# Altium footprint library DataBase.PcbLib: 28 footprints (part 2 of 2)
Each footprint in its own frame and in the unit in brackets; x right, y up, seen from the top. Pads: shape width x height; smd on the part's side, far side on the other; paste and mask are expansions set on the pad; w line width, h text height; cw(c..) or ccw(c..) is an arc to the next point about the centre after c.
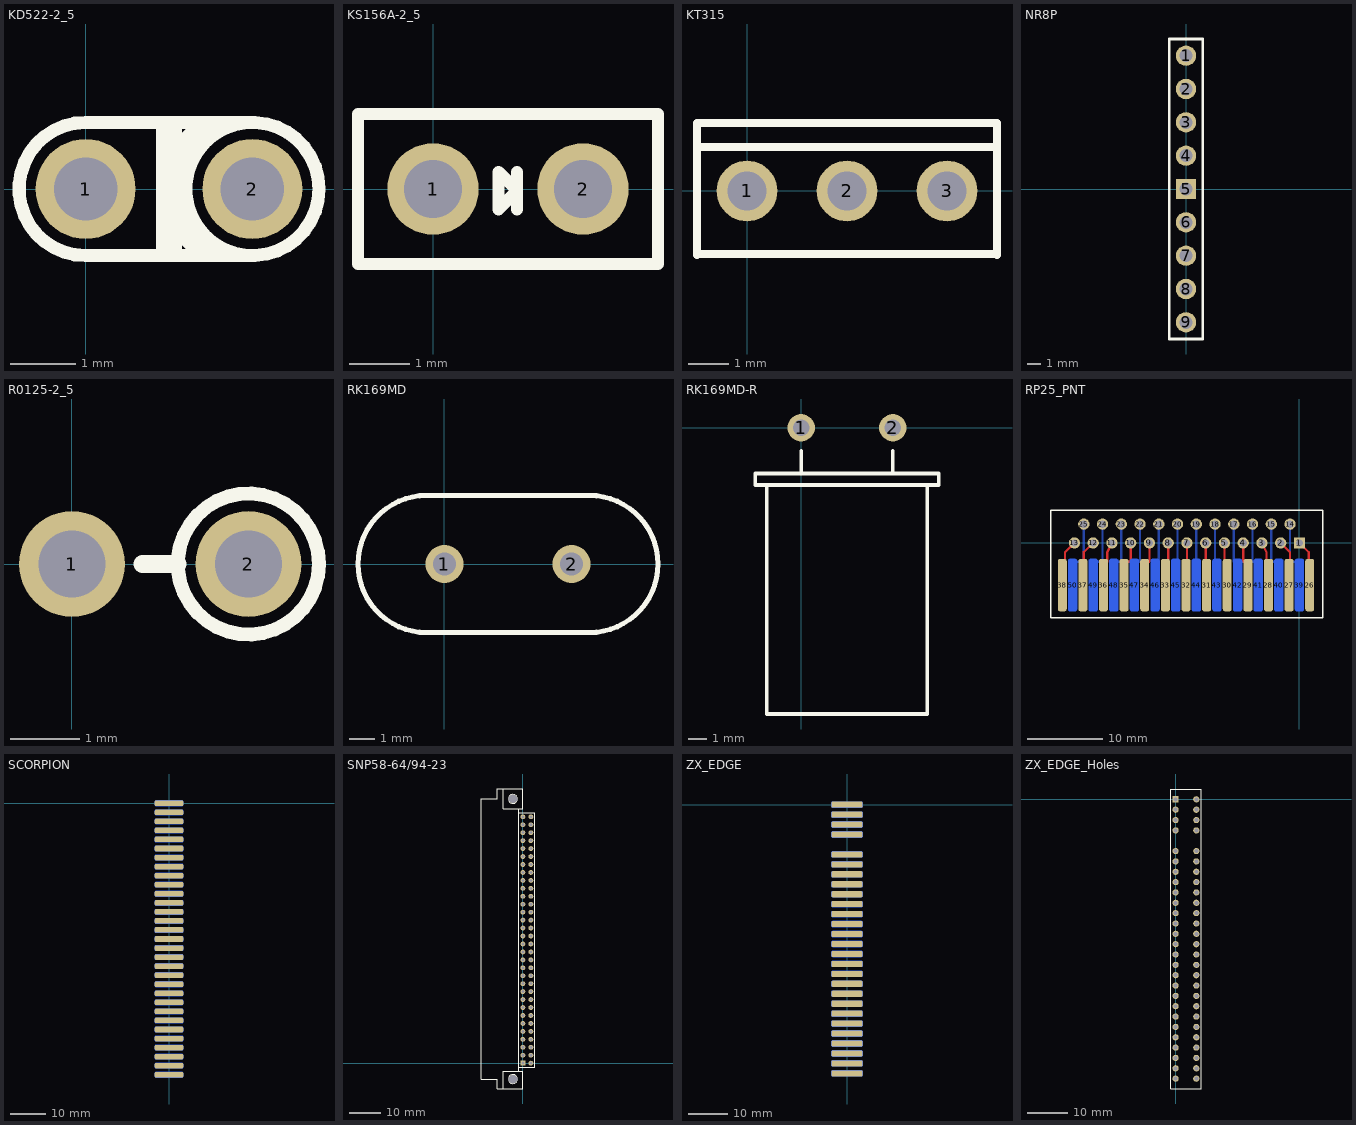
[diagram p1: the footprints below, top view; thin cyan lines are the x and y axes]

## KD522-2_5 [mil]
pads (2):
  round 60 hole 38: 1(0,0) 2(100,0)
Top Overlay:
  circle w7.87: c100,0 r40
  lines w7.87: 100,-40 0,-40 cw(c0,0) 0,40 100,40
  lines w15.75: 50,-35 50,-15 ; 50,35 50,15 ; 70,-35 50,-15 ; 70,35 50,15 ; 50,-15 50,15

## KS156A-2_5 [mil]
pads (2):
  round 60 hole 38: 1(0,0) 2(98.43,0)
Top Overlay:
  lines w7.87: 55.28,-13.35 55.28,11.3 ; -49.21,-49.21 147.64,-49.21 147.64,49.21 -49.21,49.21 -49.21,-49.21 ; 42.95,-13.35 55.28,-1.02 42.95,11.3 42.95,-13.35

## KT315 [mil]
pads (3):
  round 60 hole 38: 1(0,0) 2(98.43,0) 3(196.85,0)
Top Overlay:
  lines w7.87: -49.21,-62.99 -49.21,66.93 246.06,66.93 246.06,-62.99 ; -49.21,-62.01 246.06,-62.01 ; -49.21,43.31 246.06,43.31

## NR8P [mil]
pads (9):
  round 60 hole 38: 1(0,393.7) 2(0,295.28) 3(0,196.85) 4(0,98.43) 6(0,-98.43) 7(0,-196.85) 8(0,-295.28) 9(0,-393.7)
  rect 60x60 hole 38: 5(0,0)
Top Overlay:
  lines w7.87: -49.21,-442.91 -49.21,-49.21 -49.21,442.91 0,442.91 49.21,442.91 49.21,-442.91 -49.21,-442.91

## R0125-2_5 [mil]
pads (2):
  round 60 hole 38: 1(0,0) 2(100,0)
Top Overlay:
  circle w7.87: c100,0 r40
  lines w10: 40,0 60,0

## RK169MD [mm]
pads (2):
  round 1.5 hole 0.9: 1(0,0) 2(5,0)
Top Overlay:
  lines w0.2: -0.7,-2.7 cw(c-0.7,0) -0.7,2.7 5.7,2.7 cw(c5.7,0) 5.7,-2.7 -0.7,-2.7

## RK169MD-R [mm]
pads (2):
  round 1.5 hole 0.9: 1(0,0) 2(5,0)
Top Overlay:
  lines w0.2: -1.875,-3.125 -1.875,-15.625 6.875,-15.625 6.875,-3.125 ; 0,-2.5 0,-1.25 ; 5,-2.5 5,-1.25 ; -2.5,-3.125 7.5,-3.125 7.5,-2.5 -2.5,-2.5 -2.5,-3.125

## RP25_PNT [mm]
pads (50):
  rect 1.5x1.5 hole 0.965: 1(0,0)
  round 1.5 hole 0.965: 2(-2.5,0) 3(-5,0) 4(-7.5,0) 5(-10,0) 6(-12.5,0) 7(-15,0) 8(-17.5,0) 9(-20,0) 10(-22.5,0) 11(-25,0) 12(-27.5,0) 13(-30,0) 14(-1.25,2.5) 15(-3.75,2.5) 16(-6.25,2.5) 17(-8.75,2.5) 18(-11.25,2.5) 19(-13.75,2.5) 20(-16.25,2.5) 21(-18.75,2.5) 22(-21.25,2.5) 23(-23.75,2.5) 24(-26.25,2.5) 25(-28.75,2.5)
  rrect50% 1.2x7 smd: 26(1.375,-5.625) 27(-1.375,-5.625) 28(-4.125,-5.625) 29(-6.875,-5.625) 30(-9.625,-5.625) 31(-12.375,-5.625) 32(-15.125,-5.625) 33(-17.875,-5.625) 34(-20.625,-5.625) 35(-23.375,-5.625) 36(-26.125,-5.625) 37(-28.875,-5.625) 38(-31.625,-5.625)
  rrect50% 1.2x7 smd far side: 39(0,-5.625) 40(-2.75,-5.625) 41(-5.5,-5.625) 42(-8.25,-5.625) 43(-11,-5.625) 44(-13.75,-5.625) 45(-16.5,-5.625) 46(-19.25,-5.625) 47(-22,-5.625) 48(-24.75,-5.625) 49(-27.5,-5.625) 50(-30.25,-5.625)
Top Layer:
  lines w0.3: -31.25,-2.5 -31.25,-1.25 -30,0 ; -28.75,-2.5 -28.75,-1.25 -27.5,0 ; -25.625,-2.5 -25.625,-1.25 -25,0 ; -23.125,-2.5 -22.5,-2.5 -22.5,0 ; -20.625,-2.5 -20,-2.5 -20,0 ; -17.5,-2.5 -17.5,0 ; -15,-2.5 -15,0 ; -12.5,-2.5 -12.5,0 ; -10,-2.5 -10,0 ; -7.5,0 -7.5,-2.5 ; -5,0 -4.375,-1.25 -4.375,-2.5 ; -2.5,0 -1.25,-1.25 -1.25,-2.5 ; 0,0 1.25,-1.25 1.25,-2.5 ; -7.5,-2.5 -6.875,-2.5 -7.5,-2.5
Bottom Layer:
  lines w0.3: -30,-2.5 -28.75,-2.5 -28.75,2.5 ; -27.5,-2.5 -26.25,-2.5 -26.25,2.5 ; -24.375,-2.5 -23.75,-2.5 -23.75,2.5 ; -21.875,-2.5 -21.25,-2.5 -21.25,2.5 ; -18.75,-2.5 -18.75,2.5 ; -16.25,-2.5 -16.25,2.5 ; -13.75,-2.5 -13.75,2.5 ; -11.25,-2.5 -11.25,2.5 ; -8.75,-2.5 -8.75,2.5 ; -6.25,2.5 -6.25,-2.5 -5.625,-2.5 ; -3.75,2.5 -3.75,-2.5 -3.125,-2.5 ; -1.25,2.5 -1.25,-2.5 0,-2.5
Top Overlay:
  lines w0.2: -33.125,-10 3.125,-10 3.125,4.375 -33.125,4.375 -33.125,-10

## SCORPION [mm]
pads (62):
  rrect50% 8x1.57 smd far side: 1(0,0) 2(0,-2.54) 3(0,-5.08) 4(0,-7.62) 5(0,-10.16) 6(0,-12.7) 7(0,-15.24) 8(0,-17.78) 9(0,-20.32) 10(0,-22.86) 11(0,-25.4) 12(0,-27.94) 13(0,-30.48) 14(0,-33.02) 15(0,-35.56) 16(0,-38.1) 17(0,-40.64) 18(0,-43.18) 19(0,-45.72) 20(0,-48.26) 21(0,-50.8) 22(0,-53.34) 23(0,-55.88) 24(0,-58.42) 25(0,-60.96) 26(0,-63.5) 27(0,-66.04) 28(0,-68.58) 29(0,-71.12) 30(0,-73.66) 31(0,-76.2)
  rrect50% 8x1.57 smd: 32(0,0) 33(0,-2.54) 34(0,-5.08) 35(0,-7.62) 36(0,-10.16) 37(0,-12.7) 38(0,-15.24) 39(0,-17.78) 40(0,-20.32) 41(0,-22.86) 42(0,-25.4) 43(0,-27.94) 44(0,-30.48) 45(0,-33.02) 46(0,-35.56) 47(0,-38.1) 48(0,-40.64) 49(0,-43.18) 50(0,-45.72) 51(0,-48.26) 52(0,-50.8) 53(0,-53.34) 54(0,-55.88) 55(0,-58.42) 56(0,-60.96) 57(0,-63.5) 58(0,-66.04) 59(0,-68.58) 60(0,-71.12) 61(0,-73.66) 62(0,-76.2)

## SNP58-64/94-23 [mm]
pads (66):
  rect 1.524x1.524 hole 0.965: 1(0,0)
  round 1.524 hole 0.965: 2(0,2.5) 3(0,5) 4(0,7.5) 5(0,10) 6(0,12.5) 7(0,15) 8(0,17.5) 9(0,20) 10(0,22.5) 11(0,25) 12(0,27.5) 13(0,30) 14(0,32.5) 15(0,35) 16(0,37.5) 17(0,40) 18(0,42.5) 19(0,45) 20(0,47.5) 21(0,50) 22(0,52.5) 23(0,55) 24(0,57.5) 25(0,60) 26(0,62.5) 27(0,65) 28(0,67.5) 29(0,70) 30(0,72.5) 31(0,75) 32(0,77.5) 33(2.5,0) 34(2.5,2.5) 35(2.5,5) 36(2.5,7.5) 37(2.5,10) 38(2.5,12.5) 39(2.5,15) 40(2.5,17.5) 41(2.5,20) 42(2.5,22.5) 43(2.5,25) 44(2.5,27.5) 45(2.5,30) 46(2.5,32.5) 47(2.5,35) 48(2.5,37.5) 49(2.5,40) 50(2.5,42.5) 51(2.5,45) 52(2.5,47.5) 53(2.5,50) 54(2.5,52.5) 55(2.5,55) 56(2.5,57.5) 57(2.5,60) 58(2.5,62.5) 59(2.5,65) 60(2.5,67.5) 61(2.5,70) 62(2.5,72.5) 63(2.5,75) 64(2.5,77.5)
  round 2.7 hole 2.7 unplated: 65(-3.125,-5) 66(-3.125,83.125)
Top Overlay:
  circle w0.3: c-3.125,-5 r1.4
  circle w0.3: c-3.125,83.125 r1.4
  lines w0.3: -6.25,-8.125 -6.25,-2.5 0,-2.5 0,-8.125 -8.125,-8.125 -8.125,-5 -13.125,-5 -13.125,83.125 -8.125,83.125 -8.125,86.25 0,86.25 0,80 -6.25,80 -6.25,86.25 ; -1.25,-2.5 -1.25,80 ; -1.25,-1.25 3.75,-1.25 3.75,78.75 -1.25,78.75

## ZX_EDGE [mm]
pads (54):
  rrect50% 8x1.57 smd far side: 1(0,0) 2(0,-2.54) 3(0,-5.08) 4(0,-7.62) 6(0,-12.7) 7(0,-15.24) 8(0,-17.78) 9(0,-20.32) 10(0,-22.86) 11(0,-25.4) 12(0,-27.94) 13(0,-30.48) 14(0,-33.02) 15(0,-35.56) 16(0,-38.1) 17(0,-40.64) 18(0,-43.18) 19(0,-45.72) 20(0,-48.26) 21(0,-50.8) 22(0,-53.34) 23(0,-55.88) 24(0,-58.42) 25(0,-60.96) 26(0,-63.5) 27(0,-66.04) 28(0,-68.58)
  rrect50% 8x1.57 smd: 29(0,0) 30(0,-2.54) 31(0,-5.08) 32(0,-7.62) 34(0,-12.7) 35(0,-15.24) 36(0,-17.78) 37(0,-20.32) 38(0,-22.86) 39(0,-25.4) 40(0,-27.94) 41(0,-30.48) 42(0,-33.02) 43(0,-35.56) 44(0,-38.1) 45(0,-40.64) 46(0,-43.18) 47(0,-45.72) 48(0,-48.26) 49(0,-50.8) 50(0,-53.34) 51(0,-55.88) 52(0,-58.42) 53(0,-60.96) 54(0,-63.5) 55(0,-66.04) 56(0,-68.58)

## ZX_EDGE_Holes [mil]
pads (54):
  rect 60x60 hole 37.99: 1(0,0)
  round 60 hole 37.99: 2(0,-100) 3(0,-200) 4(0,-300) 6(0,-500) 7(0,-600) 8(0,-700) 9(0,-800) 10(0,-900) 11(0,-1000) 12(0,-1100) 13(0,-1200) 14(0,-1300) 15(0,-1400) 16(0,-1500) 17(0,-1600) 18(0,-1700) 19(0,-1800) 20(0,-1900) 21(0,-2000) 22(0,-2100) 23(0,-2200) 24(0,-2300) 25(0,-2400) 26(0,-2500) 27(0,-2600) 28(0,-2700) 29(200,0) 30(200,-100) 31(200,-200) 32(200,-300) 34(200,-500) 35(200,-600) 36(200,-700) 37(200,-800) 38(200,-900) 39(200,-1000) 40(200,-1100) 41(200,-1200) 42(200,-1300) 43(200,-1400) 44(200,-1500) 45(200,-1600) 46(200,-1700) 47(200,-1800) 48(200,-1900) 49(200,-2000) 50(200,-2100) 51(200,-2200) 52(200,-2300) 53(200,-2400) 54(200,-2500) 55(200,-2600) 56(200,-2700)
Top Overlay:
  lines w11.81: -49.21,-2800 -49.21,100 250,100 250,-2800 -49.21,-2800